# EAGLE library part MICROCHIP_MCP3428-E-ST (library Upverter Library)
CON-ADC-MCP3428-14
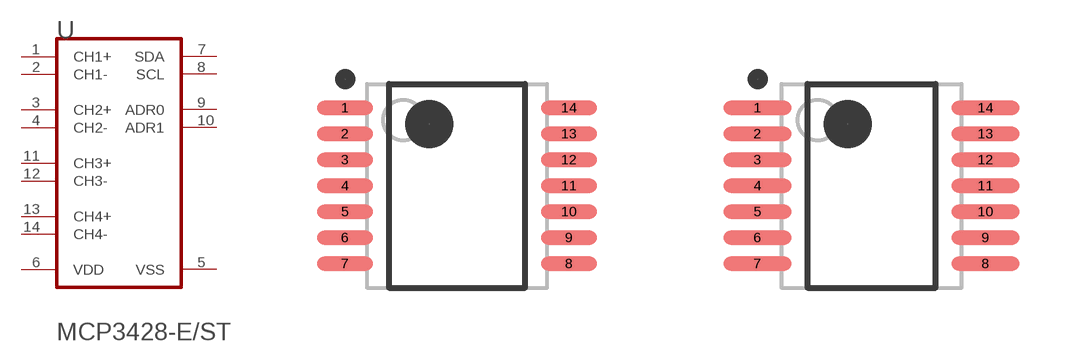
[diagram p0: symbol with the pads of MICROCHIP_MCP3428-E-ST_0; footprints MICROCHIP_MCP3428-E-ST_0, MICROCHIP_MCP3428-E-ST_1]

Designator prefix U

## MICROCHIP_MCP3428-E-STMICROCHIP_MCP3428-E-ST_0_0 (Component_Link_1_Description: Manufacturer URL; Component_Link_1_URL: http://www.microchip.com/; Component_Link_3_Description: Package Specification; Component_Link_3_URL: http://www.microchip.com/stellent/groups/techpub_sg/documents/packagingspec/en012702.pdf; Datasheet_Version: revA, Dec-2009; MF: Microchip; MPN: MCP3428-E/ST; Package_Description: 14-Lead Plastic Thin Shrink Small Outline (ST) - 4.4mm Body [TSSOP]; Package_Version: revBB, Aug-2009; ciiva_ids: 2293999; datasheet: http://ww1.microchip.com/downloads/en/DeviceDoc/22226a.pdf; footprint_variant_name_0: Level C; footprint_variant_name_1: Level B; footprint_variant_name_2: Level A; import_ts: 1521844225; imported: yes; imported_from: vault; package: TSSOP-ST14; pin_0_0_2_inside_edge: clock; prefix: U; release_date: 1331948705; vault_guid: EB2685E1-10B7-42B5-8344-5880799C6F96; vault_revision: 3FEDC9B5-E4CD-413F-AEF0-A0482F1C2AB1)  [MICROCHIP_MCP3428-E-ST_0]
1  CH1+  in
2  CH1-  in
3  CH2+  in
4  CH2-  in
5  VSS  pwr
6  VDD  pwr
7  SDA
8  SCL  in
9  ADR0  pas
10  ADR1  pas
11  CH3+  in
12  CH3-  in
13  CH4+  in
14  CH4-  in

## MICROCHIP_MCP3428-E-STMICROCHIP_MCP3428-E-ST_0_1 (Component_Link_1_Description: Manufacturer URL; Component_Link_1_URL: http://www.microchip.com/; Component_Link_3_Description: Package Specification; Component_Link_3_URL: http://www.microchip.com/stellent/groups/techpub_sg/documents/packagingspec/en012702.pdf; Datasheet_Version: revA, Dec-2009; MF: Microchip; MPN: MCP3428-E/ST; Package_Description: 14-Lead Plastic Thin Shrink Small Outline (ST) - 4.4mm Body [TSSOP]; Package_Version: revBB, Aug-2009; ciiva_ids: 2293999; datasheet: http://ww1.microchip.com/downloads/en/DeviceDoc/22226a.pdf; footprint_variant_name_0: Level C; footprint_variant_name_1: Level B; footprint_variant_name_2: Level A; import_ts: 1521844225; imported: yes; imported_from: vault; package: TSSOP-ST14; pin_0_0_2_inside_edge: clock; prefix: U; release_date: 1331948705; vault_guid: EB2685E1-10B7-42B5-8344-5880799C6F96; vault_revision: 3FEDC9B5-E4CD-413F-AEF0-A0482F1C2AB1)  [MICROCHIP_MCP3428-E-ST_1]
Pads as for MICROCHIP_MCP3428-E-ST_0

## MICROCHIP_MCP3428-E-STMICROCHIP_MCP3428-E-ST_0_2 (Component_Link_1_Description: Manufacturer URL; Component_Link_1_URL: http://www.microchip.com/; Component_Link_3_Description: Package Specification; Component_Link_3_URL: http://www.microchip.com/stellent/groups/techpub_sg/documents/packagingspec/en012702.pdf; Datasheet_Version: revA, Dec-2009; MF: Microchip; MPN: MCP3428-E/ST; Package_Description: 14-Lead Plastic Thin Shrink Small Outline (ST) - 4.4mm Body [TSSOP]; Package_Version: revBB, Aug-2009; ciiva_ids: 2293999; datasheet: http://ww1.microchip.com/downloads/en/DeviceDoc/22226a.pdf; footprint_variant_name_0: Level C; footprint_variant_name_1: Level B; footprint_variant_name_2: Level A; import_ts: 1521844225; imported: yes; imported_from: vault; package: TSSOP-ST14; pin_0_0_2_inside_edge: clock; prefix: U; release_date: 1331948705; vault_guid: EB2685E1-10B7-42B5-8344-5880799C6F96; vault_revision: 3FEDC9B5-E4CD-413F-AEF0-A0482F1C2AB1)  [MICROCHIP_MCP3428-E-ST_2]
Pads as for MICROCHIP_MCP3428-E-ST_0

## Footprint MICROCHIP_MCP3428-E-ST_0 (pad centres in mm)
CON-ADC-MCP3428-14
smd 1.4 x 0.35: 1 -2.8,1.95; 2 -2.8,1.3; 3 -2.8,0.65; 4 -2.8,0; 5 -2.8,-0.65; 6 -2.8,-1.3; 7 -2.8,-1.95; 8 2.8,-1.95; 9 2.8,-1.3; 10 2.8,-0.65; 11 2.8,0; 12 2.8,0.65; 13 2.8,1.3; 14 2.8,1.95

## Footprint MICROCHIP_MCP3428-E-ST_1 (pad centres in mm)
CON-ADC-MCP3428-14
smd 1.7 x 0.35: 1 -2.85,1.95; 2 -2.85,1.3; 3 -2.85,0.65; 4 -2.85,0; 5 -2.85,-0.65; 6 -2.85,-1.3; 7 -2.85,-1.95; 8 2.85,-1.95; 9 2.85,-1.3; 10 2.85,-0.65; 11 2.85,0; 12 2.85,0.65; 13 2.85,1.3; 14 2.85,1.95

## Footprint MICROCHIP_MCP3428-E-ST_2 (pad centres in mm)
CON-ADC-MCP3428-14
smd 2 x 0.35: 1 -2.9,1.95; 2 -2.9,1.3; 3 -2.9,0.65; 4 -2.9,0; 5 -2.9,-0.65; 6 -2.9,-1.3; 7 -2.9,-1.95; 8 2.9,-1.95; 9 2.9,-1.3; 10 2.9,-0.65; 11 2.9,0; 12 2.9,0.65; 13 2.9,1.3; 14 2.9,1.95